# EAGLE library part ZX62-B-5PA (library open-bldc)
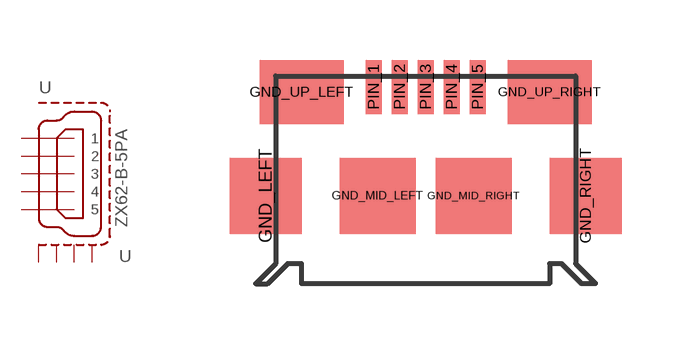
[diagram p3: symbol with the pads of ZX62-B-5PA; footprint ZX62-B-5PA]

Designator prefix -

## ZX62-B-5PA  [ZX62-B-5PA]
GND_LEFT  S1  pas
GND_RIGHT  S2  pas
GND_UP_LEFT  S3  pas
GND_UP_RIGHT  S4  pas
PIN_1  1  in
PIN_2  2  in
PIN_3  3  in
PIN_4  4  in
PIN_5  5  in

## Footprint ZX62-B-5PA (pad centres in mm)
smd 1.8 x 1.9: GND_LEFT -4,0; GND_RIGHT 4,0
smd 1.9 x 1.9: GND_MID_LEFT -1.2,0; GND_MID_RIGHT 1.2,0
smd 2.1 x 1.6: GND_UP_LEFT -3.1,2.6; GND_UP_RIGHT 3.1,2.6
smd 0.4 x 1.35: PIN_1 -1.3,2.725; PIN_2 -0.65,2.725; PIN_3 0,2.725; PIN_4 0.65,2.725; PIN_5 1.3,2.725